# Altium footprint library резисторы.PcbLib: 11 footprints
Each footprint in its own frame and in the unit in brackets; x right, y up, seen from the top. Pads: shape width x height; smd on the part's side, far side on the other; paste and mask are expansions set on the pad; w line width, h text height; cw(c..) or ccw(c..) is an arc to the next point about the centre after c.
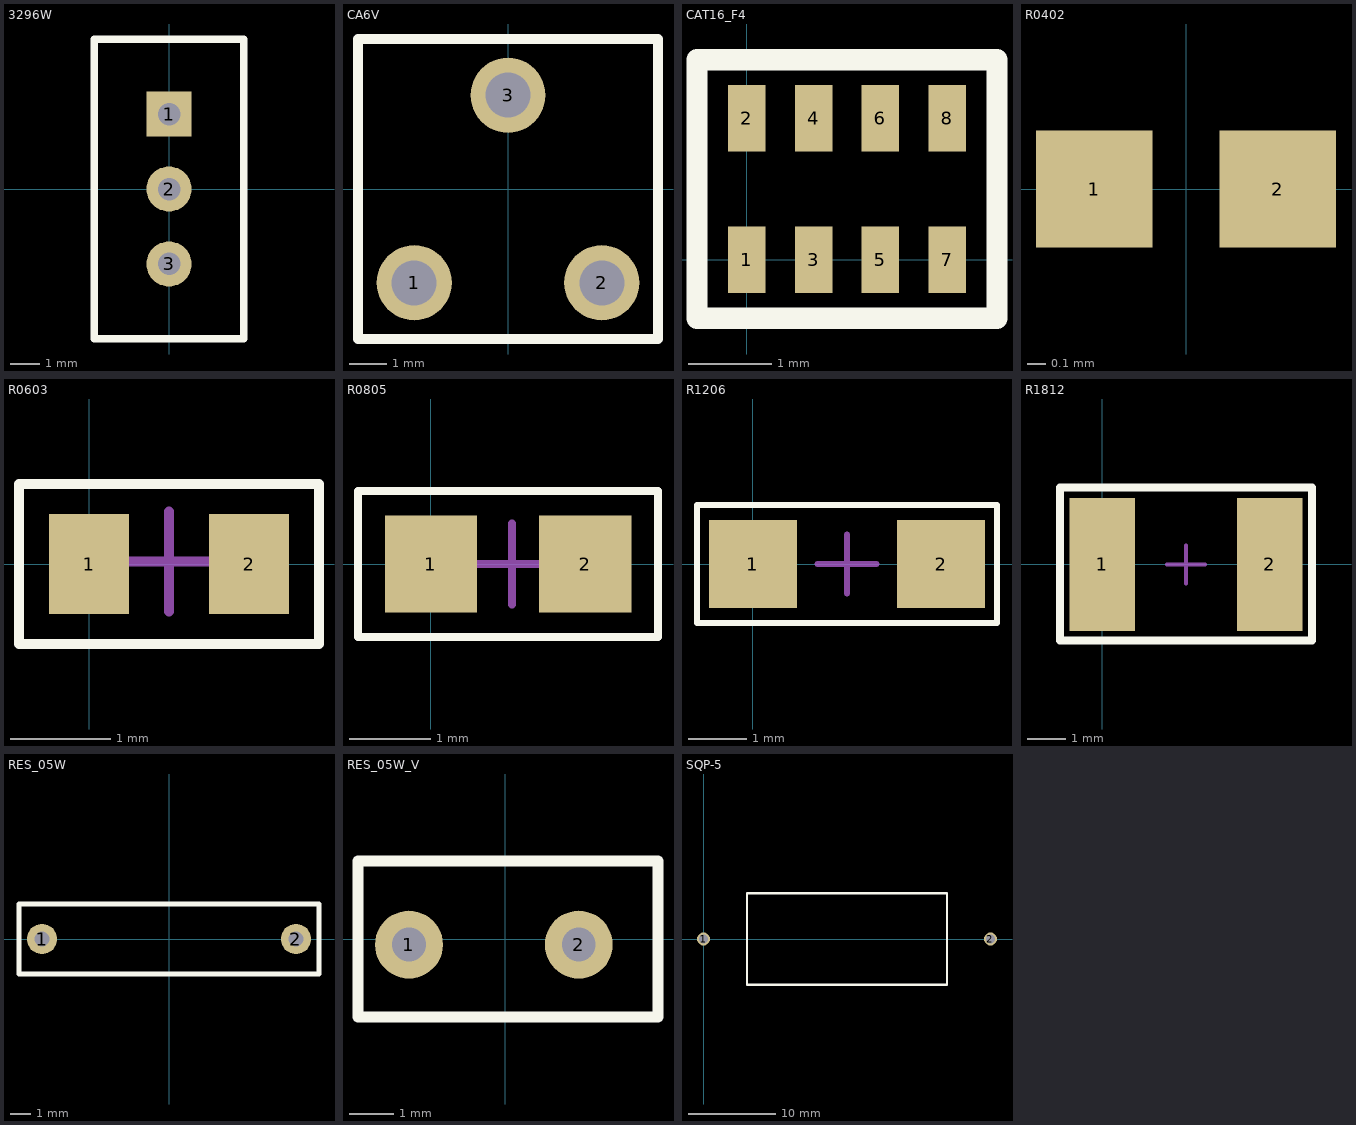
[diagram p0: the footprints below, top view; thin cyan lines are the x and y axes]

## 3296W [mil]
pads (3):
  rect 60x60 hole 30: 1(0,100)
  round 60 hole 30: 2(0,0) 3(0,-100)
Top Overlay:
  lines w10: -100,-200 -100,200 100,200 100,-200 -100,-200
3D body "3296w.stp": height 444.85, standoff -128.15, extent -95,-188 95,188

## CA6V [mm]
pads (3):
  round 2 hole 1.2: 1(-2.5,-2.5) 2(2.5,-2.5) 3(0,2.5)
Top Overlay:
  lines w0.254: -4,-4 4,-4 4,4 -4,4 -4,-4
3D body: height 5, standoff 0, extent -3.81,-3.81 3.81,3.81

## CAT16_F4 [mm]
pads (8):
  rect 0.45x0.8 smd: 1(0,0) 2(0,1.7) 3(0.8,0) 4(0.8,1.7) 5(1.6,0) 6(1.6,1.7) 7(2.4,0) 8(2.4,1.7)
Top Overlay:
  lines w0.254: -0.6,-0.7 -0.6,2.4 3,2.4 3,-0.7 -0.6,-0.7
3D body "CAT_16x4.STEP": height 0.5, standoff 0, extent -0.4,0.2 2.8,1.8

## R0402 [mm]
pads (2):
  rect 0.635x0.635 smd: 1(-0.5,0) 2(0.5,0)
3D body "User Library-d0402h025.step": height 0.25, standoff 0, extent -0.5,-0.25 0.5,0.25

## R0603 [mm]
pads (2):
  rect 0.8x1 smd: 1(0,0) 2(1.6,0)
Top Overlay:
  lines w0.1: -0.7,-0.8 2.3,-0.8 2.3,0.8 -0.7,0.8 -0.7,-0.8
Mechanical 15:
  lines w0.1: 0.273,0.025 1.273,0.025 ; 0.798,-0.475 0.798,0.525
3D body "R0603.STEP": height 0.56, standoff 0, extent -0.063,-0.381 1.637,0.419

## R0805 [mm]
pads (2):
  rect 1.14x1.2 smd: 1(0,0) 2(1.905,0)
Top Overlay:
  lines w0.1: -0.9,-0.9 2.8,-0.9 2.8,0.9 -0.9,0.9 -0.9,-0.9
Mechanical 15:
  lines w0.1: 0.5,0 1.5,0 ; 1,-0.5 1,0.5
3D body "R0805.STEP": height 0.76, standoff 0, extent -0.21,-0.675 2.09,0.675

## R1206 [mm]
pads (2):
  rect 1.5x1.5 smd: 1(0,0) 2(3.2,0)
Top Overlay:
  lines w0.1: -0.95,-1 -0.95,1 4.15,1 4.15,-1 -0.95,-1
Mechanical 15:
  lines w0.1: 1.1,0 2.1,0 ; 1.6,-0.5 1.6,0.5
3D body "R1206.STEP": height 0.85, standoff 0, extent -0.075,-0.865 3.275,0.865

## R1812 [mm]
pads (2):
  rect 1.7x3.45 smd: 1(0,0) 2(4.35,0)
Top Overlay:
  lines w0.2: -1.1,-1.975 -1.1,2 5.45,2 5.45,-1.975 -1.1,-1.975
Mechanical 15:
  lines w0.1: 1.675,0 2.675,0 ; 2.175,-0.5 2.175,0.5
3D body "R1812.STEP": height 1.6, standoff 0, extent -0.075,-1.6 4.425,1.6

## RES_05W [mil]
pads (2):
  round 60 hole 30: 1(-250,0) 2(250,0)
Top Overlay:
  lines w10: -295.28,-68.9 295.28,-68.9 295.28,68.9 -295.28,68.9 -295.28,-68.9
3D body "res_05x12_5.STEP": height 141.73, standoff -70.87, extent -257.87,-62.99 257.88,63

## RES_05W_V [mil]
pads (2):
  round 60 hole 30: 1(-85,-5) 2(65,-5)
Top Overlay:
  lines w10: -130,-68.9 135,-68.9 135,68.9 -130,68.9 -130,-68.9
3D body "RES 0,5W -V  L=9 D=3,2 d=0,6 Pin2Pin=3,81.STEP": height 498.03, standoff -118.11, extent -98.43,-66.94 126.32,59.06

## SQP-5 [mm]
pads (2):
  round 1.5 hole 1: 1(0,0) 2(33,0)
Top Overlay:
  lines w0.254: 5,-5.25 5,5.25 28,5.25 28,-5.25 5,-5.25